# Altium footprint library C11204-01.PcbLib: 1 footprints
Each footprint in its own frame and in the unit in brackets; x right, y up, seen from the top. Pads: shape width x height; smd on the part's side, far side on the other; paste and mask are expansions set on the pad; w line width, h text height; cw(c..) or ccw(c..) is an arc to the next point about the centre after c.
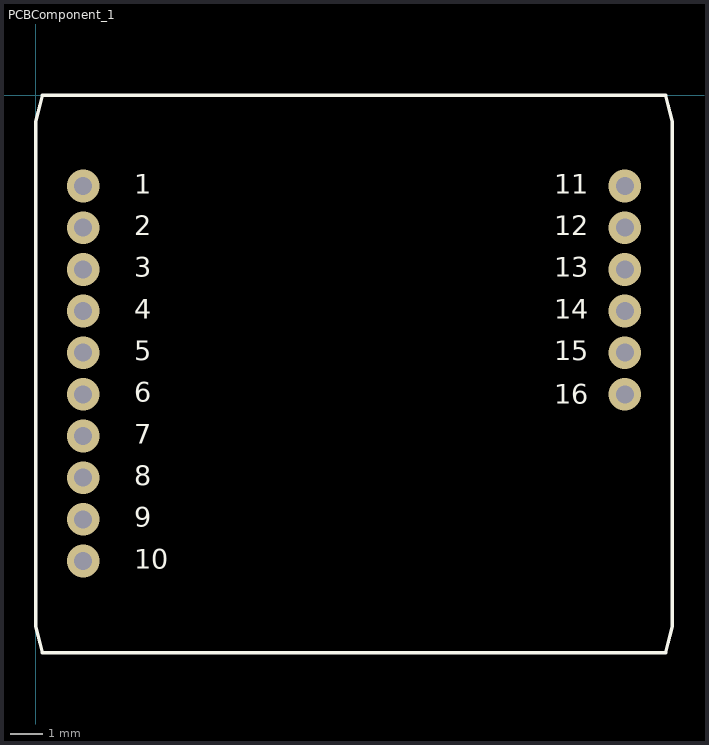
[diagram p0: the footprint, top view; thin cyan lines are the x and y axes]

## PCBComponent_1 [mm]
via 17.955,-7.85 diameter 1 hole 0.55
via 17.955,-6.58 diameter 1 hole 0.55
via 17.955,-5.31 diameter 1 hole 0.55
via 17.955,-4.04 diameter 1 hole 0.55
via 17.955,-2.77 diameter 1 hole 0.55
via 17.955,-9.12 diameter 1 hole 0.55
via 1.445,-4.04 diameter 1 hole 0.55
via 1.445,-2.77 diameter 1 hole 0.55
via 1.445,-6.58 diameter 1 hole 0.55
via 1.445,-7.85 diameter 1 hole 0.55
via 1.445,-9.12 diameter 1 hole 0.55
via 1.445,-10.39 diameter 1 hole 0.55
via 1.445,-11.66 diameter 1 hole 0.55
via 1.445,-12.93 diameter 1 hole 0.55
via 1.445,-14.2 diameter 1 hole 0.55
via 1.445,-5.31 diameter 1 hole 0.55
Top Overlay:
  pour cut-out: 9,-1.6
  lines w0.1: 0,-16.2 0.2,-17 19.2,-17 19.4,-16.2 19.4,-0.8 19.2,0 0.2,0 0,-0.8 0,-16.2
  text "16" at 15.8,-9.4 h0.6
  text "15" at 15.8,-8.08 h0.6
  text "14" at 15.8,-6.81 h0.6
  text "13" at 15.8,-5.54 h0.6
  text "12" at 15.8,-4.27 h0.6
  text "11" at 15.8,-3 h0.6
  text "10" at 3,-14.43 h0.6
  text "9" at 3,-13.16 h0.6
  text "8" at 3,-11.89 h0.6
  text "7" at 3,-10.62 h0.6
  text "6" at 3,-9.35 h0.6
  text "5" at 3,-8.08 h0.6
  text "4" at 3,-6.81 h0.6
  text "3" at 3,-5.54 h0.6
  text "2" at 3,-4.27 h0.6
  text "1" at 3,-3 h0.6